# Altium footprint library DLW5BTM501TQ2L.PcbLib: 1 footprints
Each footprint in its own frame and in the unit in brackets; x right, y up, seen from the top. Pads: shape width x height; smd on the part's side, far side on the other; paste and mask are expansions set on the pad; w line width, h text height; cw(c..) or ccw(c..) is an arc to the next point about the centre after c.
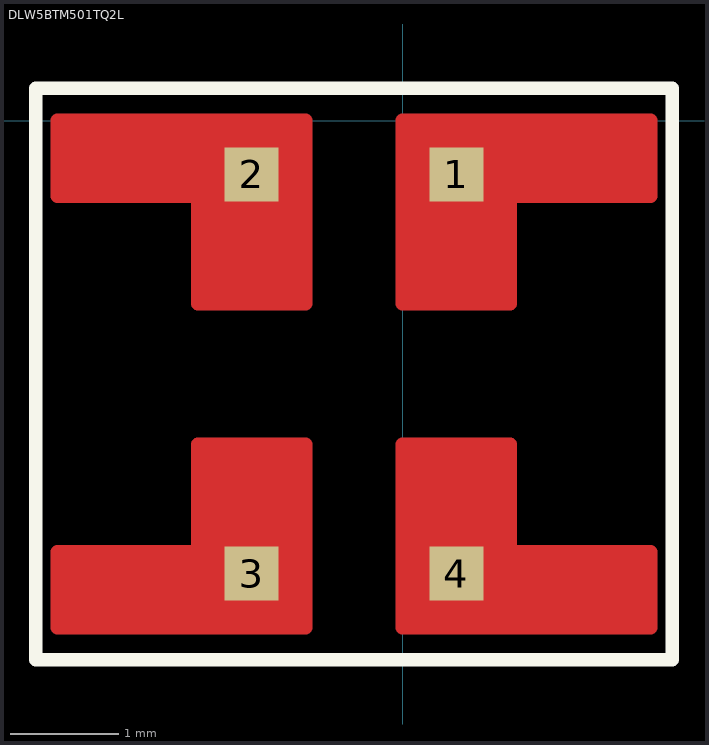
[diagram p0: the footprint, top view; thin cyan lines are the x and y axes]

## DLW5BTM501TQ2L [mm]
pads (4):
  rect 0.5x0.5 smd: 1(0.5,-0.5) 2(-1.4,-0.5) 3(-1.4,-4.2) 4(0.5,-4.2)
Top Layer:
  region: 0,-3 1,-3 1,-4 2.3,-4 2.3,-4.7 0,-4.7
  region: -0.9,-1.7 -1.9,-1.7 -1.9,-0.7 -3.2,-0.7 -3.2,0 -0.9,0
  region: 0,-1.7 1,-1.7 1,-0.7 2.3,-0.7 2.3,0 0,0
  region: -0.9,-3 -1.9,-3 -1.9,-4 -3.2,-4 -3.2,-4.7 -0.9,-4.7
  lines w0.127: -3.2,-4.7 -3.2,-4 -1.9,-4 -1.9,-3 -0.9,-3 -0.9,-4.7 -3.2,-4.7 ; -3.2,-0.7 -3.2,0 -0.9,0 -0.9,-1.7 -1.9,-1.7 -1.9,-0.7 -3.2,-0.7 ; 0,-4.7 2.3,-4.7 2.3,-4 1,-4 1,-3 0,-3 0,-4.7 ; 0,-1.7 0,0 2.3,0 2.3,-0.7 1,-0.7 1,-1.7 0,-1.7
Top Overlay:
  lines w0.127: -3.4,-5 2.5,-5 2.5,0.3 -3.4,0.3 -3.4,-5